# EAGLE library part ADG1434RU (library analog-devices)
ANALOG iCMOS SWITCH
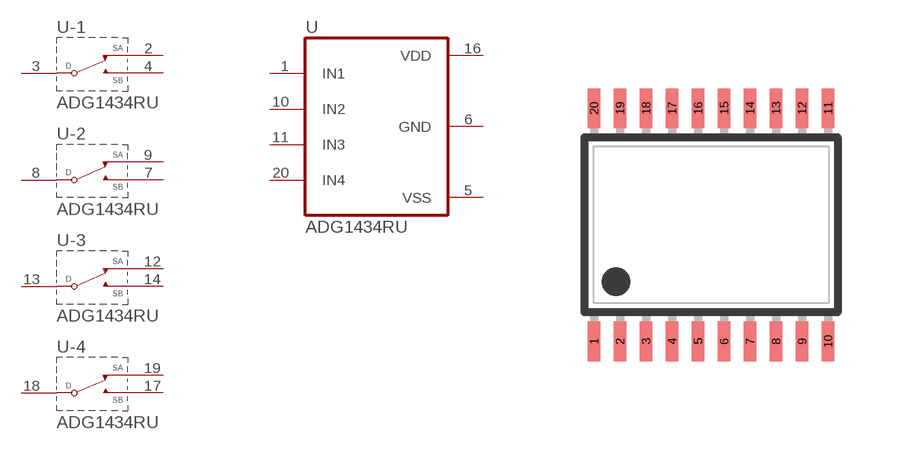
[diagram p77: symbol with the pads of TSSOP20; footprint TSSOP20]

Designator prefix U; gates G$1=ADG1434 -1=ADG-SPDT -2=ADG-SPDT -3=ADG-SPDT -4=ADG-SPDT

## ADG1434RU  [TSSOP20]
1  G$1:IN1  in
2  -1:SA  pas
3  -1:D  pas
4  -1:SB  pas
5  G$1:VSS  pwr
6  G$1:GND  pwr
7  -2:SB  pas
8  -2:D  pas
9  -2:SA  pas
10  G$1:IN2  in
11  G$1:IN3  in
12  -3:SA  pas
13  -3:D  pas
14  -3:SB  pas
16  G$1:VDD  pwr
17  -4:SB  pas
18  -4:D  pas
19  -4:SA  pas
20  G$1:IN4  in

## Footprint TSSOP20 (pad centres in mm)
Thin Shrink Small Outline Plastic 20
smd 0.305 x 0.991: 1 -2.925,-2.918; 2 -2.275,-2.918; 3 -1.625,-2.918; 4 -0.975,-2.918; 5 -0.325,-2.918; 6 0.325,-2.918; 7 0.975,-2.918; 8 1.625,-2.918; 9 2.275,-2.918; 10 2.925,-2.918; 11 2.925,2.918; 12 2.275,2.918; 13 1.625,2.918; 14 0.975,2.918; 15 0.325,2.918; 16 -0.325,2.918; 17 -0.975,2.918; 18 -1.625,2.918; 19 -2.275,2.918; 20 -2.925,2.918